# Altium footprint library Inductor_THT.PcbLib: 269 footprints (part 13 of 17)
Each footprint in its own frame and in the unit in brackets; x right, y up, seen from the top. Pads: shape width x height; smd on the part's side, far side on the other; paste and mask are expansions set on the pad; w line width, h text height; cw(c..) or ccw(c..) is an arc to the next point about the centre after c.
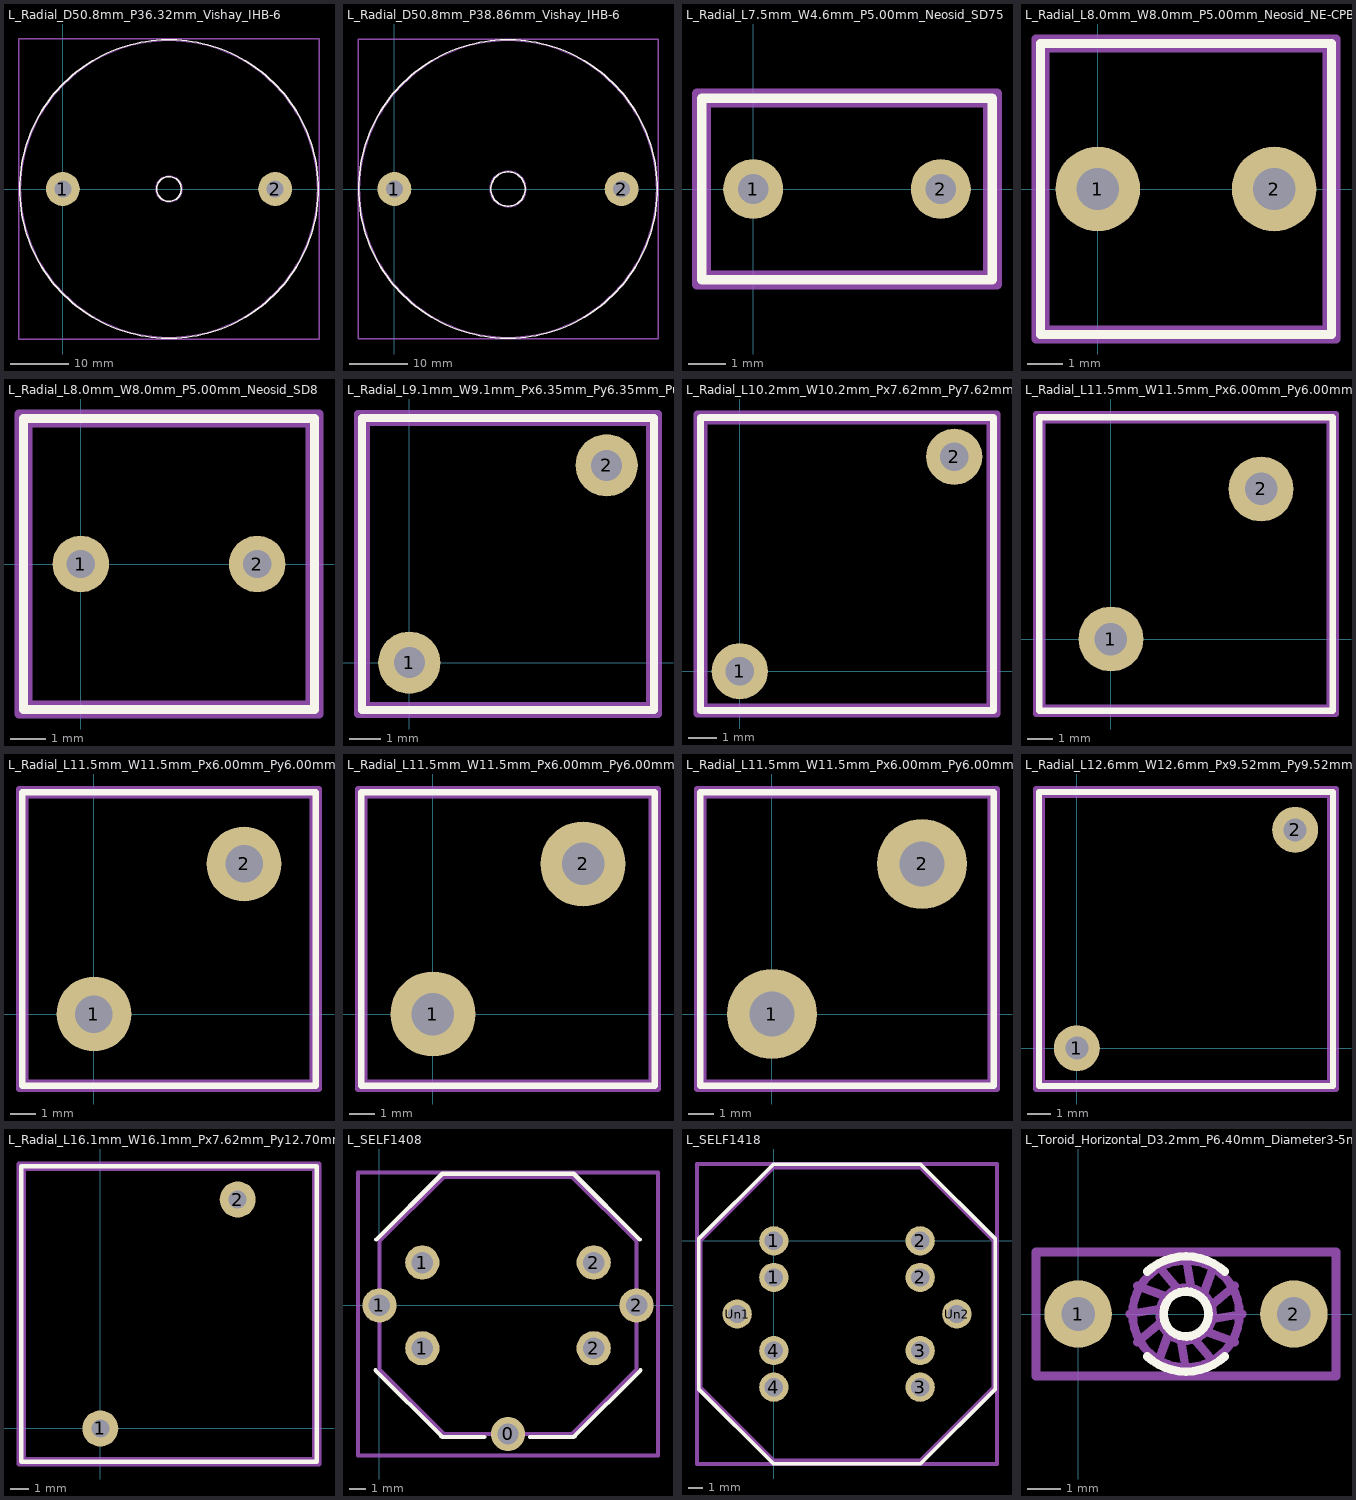
[diagram p12: the footprints below, top view; thin cyan lines are the x and y axes]

## L_Radial_D50.8mm_P36.32mm_Vishay_IHB-6 [mm]
pads (2):
  round 5.8 hole 2.9: 1(0,0) 2(36.32,0)
F.SilkS:
  circle w0.254: c18.16,0 r25.52
  circle w0.254: c18.16,0 r2.105
Top Assembly:
  circle w0.254: c18.16,0 r25.4
  circle w0.254: c18.16,0 r2.225
  text "'.Designator'" at 14.113,-0.84 h1
Top Courtyard:
  lines w0.254: -7.49,-25.65 43.81,-25.65 43.81,25.65 -7.49,25.65 -7.49,-25.65
Top Designator:
  text ".Designator" at 10.542,-0.508 h1.52
3D body "L_Radial_D50.8mm_P36.32mm_Vishay_IHB-6.step": height 38.2, standoff -3, extent -7.24,-25.393 43.56,25.393

## L_Radial_D50.8mm_P38.86mm_Vishay_IHB-6 [mm]
pads (2):
  round 5.8 hole 2.9: 1(0,0) 2(38.86,0)
F.SilkS:
  circle w0.254: c19.43,0 r25.52
  circle w0.254: c19.43,0 r2.93
Top Assembly:
  circle w0.254: c19.43,0 r25.4
  circle w0.254: c19.43,0 r3.05
  text "'.Designator'" at 15.383,-0.84 h1
Top Courtyard:
  lines w0.254: -6.22,-25.65 45.08,-25.65 45.08,25.65 -6.22,25.65 -6.22,-25.65
Top Designator:
  text ".Designator" at 11.812,-0.508 h1.52
3D body "L_Radial_D50.8mm_P38.86mm_Vishay_IHB-6.step": height 38.2, standoff -3, extent -5.97,-25.393 44.83,25.393

## L_Radial_L7.5mm_W4.6mm_P5.00mm_Neosid_SD75 [mm]
pads (2):
  round 1.6 hole 0.8: 1(0,0) 2(5,0)
F.SilkS:
  lines w0.254: -1.37,-2.42 6.37,-2.42 6.37,2.42 -1.37,2.42 -1.37,-2.42
Top Assembly:
  lines w0.254: -1.25,-2.3 6.25,-2.3 6.25,2.3 -1.25,2.3 -1.25,-2.3
  text "'.Designator'" at -1.547,-0.84 h1
Top Courtyard:
  lines w0.254: -1.5,-2.55 6.5,-2.55 6.5,2.55 -1.5,2.55 -1.5,-2.55
Top Designator:
  text ".Designator" at -5.152,-0.508 h1.52
3D body "L_Radial_L7.5mm_W4.6mm_P5.00mm_Neosid_SD75.step": height 10.6, standoff -3, extent -1.25,-2.3 6.25,2.3

## L_Radial_L8.0mm_W8.0mm_P5.00mm_Neosid_NE-CPB-07E [mm]
pads (2):
  round 2.4 hole 1.2: 1(0,0) 2(5,0)
F.SilkS:
  lines w0.254: -1.62,-4.12 6.62,-4.12 6.62,4.12 -1.62,4.12 -1.62,-4.12
Top Assembly:
  lines w0.254: -1.5,-4 6.5,-4 6.5,4 -1.5,4 -1.5,-4
  text "'.Designator'" at -1.547,-0.84 h1
Top Courtyard:
  lines w0.254: -1.75,-4.25 6.75,-4.25 6.75,4.25 -1.75,4.25 -1.75,-4.25
Top Designator:
  text ".Designator" at -5.118,-0.508 h1.52
3D body "L_Radial_L8.0mm_W8.0mm_P5.00mm_Neosid_NE-CPB-07E.step": height 7.6, standoff -3, extent -1.5,-4 6.5,4

## L_Radial_L8.0mm_W8.0mm_P5.00mm_Neosid_SD8 [mm]
pads (2):
  round 1.6 hole 0.8: 1(0,0) 2(5,0)
F.SilkS:
  lines w0.254: -1.62,-4.12 6.62,-4.12 6.62,4.12 -1.62,4.12 -1.62,-4.12
Top Assembly:
  lines w0.254: -1.5,-4 6.5,-4 6.5,4 -1.5,4 -1.5,-4
  text "'.Designator'" at -1.547,-0.84 h1
Top Courtyard:
  lines w0.254: -1.75,-4.25 6.75,-4.25 6.75,4.25 -1.75,4.25 -1.75,-4.25
Top Designator:
  text ".Designator" at -5.118,-0.508 h1.52
3D body "L_Radial_L8.0mm_W8.0mm_P5.00mm_Neosid_SD8.step": height 9.7, standoff -3, extent -1.5,-4 6.5,4

## L_Radial_L9.1mm_W9.1mm_Px6.35mm_Py6.35mm_Pulse_LP-25 [mm]
pads (2):
  round 2 hole 1: 1(0,0) 2(6.35,6.35)
F.SilkS:
  lines w0.254: -1.515,-1.515 7.865,-1.515 7.865,7.865 -1.515,7.865 -1.515,-1.515
Top Assembly:
  lines w0.254: -1.395,-1.395 7.745,-1.395 7.745,7.745 -1.395,7.745 -1.395,-1.395
  text "'.Designator'" at -0.872,-0.84 h1
Top Courtyard:
  lines w0.254: -1.65,-1.65 8,-1.65 8,8 -1.65,8 -1.65,-1.65
Top Designator:
  text ".Designator" at -4.443,2.667 h1.52
3D body "L_Radial_L9.1mm_W9.1mm_Px6.35mm_Py6.35mm_Pulse_LP-25.step": height 7.97, standoff -3, extent -1.395,-1.395 7.745,7.745

## L_Radial_L10.2mm_W10.2mm_Px7.62mm_Py7.62mm_Pulse_LP-30 [mm]
pads (2):
  round 2 hole 1: 1(0,0) 2(7.62,7.62)
F.SilkS:
  lines w0.254: -1.39,-1.39 9.01,-1.39 9.01,9.01 -1.39,9.01 -1.39,-1.39
Top Assembly:
  lines w0.254: -1.27,-1.27 8.89,-1.27 8.89,8.89 -1.27,8.89 -1.27,-1.27
  text "'.Designator'" at -0.237,-0.84 h1
Top Courtyard:
  lines w0.254: -1.52,-1.52 9.14,-1.52 9.14,9.14 -1.52,9.14 -1.52,-1.52
Top Designator:
  text ".Designator" at -3.808,3.302 h1.52
3D body "L_Radial_L10.2mm_W10.2mm_Px7.62mm_Py7.62mm_Pulse_LP-30.step": height 7.72, standoff -3, extent -1.27,-1.27 8.89,8.89

## L_Radial_L11.5mm_W11.5mm_Px6.00mm_Py6.00mm_Neosid_NE-CPB-11EN_Drill1.3mm [mm]
pads (2):
  round 2.6 hole 1.3: 1(0,0) 2(6,6)
F.SilkS:
  lines w0.254: -2.87,-2.87 8.87,-2.87 8.87,8.87 -2.87,8.87 -2.87,-2.87
Top Assembly:
  lines w0.254: -2.75,-2.75 8.75,-2.75 8.75,8.75 -2.75,8.75 -2.75,-2.75
  text "'.Designator'" at -1.047,-0.84 h1
Top Courtyard:
  lines w0.254: -3,-3 9,-3 9,9 -3,9 -3,-3
Top Designator:
  text ".Designator" at -4.618,2.492 h1.52
3D body "L_Radial_L11.5mm_W11.5mm_Px6.00mm_Py6.00mm_Neosid_NE-CPB-11EN_Drill1.3mm.step": height 9.7, standoff -3, extent -2.75,-2.75 8.75,8.75

## L_Radial_L11.5mm_W11.5mm_Px6.00mm_Py6.00mm_Neosid_NE-CPB-11EN_Drill1.5mm [mm]
pads (2):
  round 3 hole 1.5: 1(0,0) 2(6,6)
F.SilkS:
  lines w0.254: -2.87,-2.87 8.87,-2.87 8.87,8.87 -2.87,8.87 -2.87,-2.87
Top Assembly:
  lines w0.254: -2.75,-2.75 8.75,-2.75 8.75,8.75 -2.75,8.75 -2.75,-2.75
  text "'.Designator'" at -1.047,-0.84 h1
Top Courtyard:
  lines w0.254: -3,-3 9,-3 9,9 -3,9 -3,-3
Top Designator:
  text ".Designator" at -4.618,2.492 h1.52
3D body "L_Radial_L11.5mm_W11.5mm_Px6.00mm_Py6.00mm_Neosid_NE-CPB-11EN_Drill1.5mm.step": height 9.7, standoff -3, extent -2.75,-2.75 8.75,8.75

## L_Radial_L11.5mm_W11.5mm_Px6.00mm_Py6.00mm_Neosid_NE-CPB-11EN_Drill1.7mm [mm]
pads (2):
  round 3.4 hole 1.7: 1(0,0) 2(6,6)
F.SilkS:
  lines w0.254: -2.87,-2.87 8.87,-2.87 8.87,8.87 -2.87,8.87 -2.87,-2.87
Top Assembly:
  lines w0.254: -2.75,-2.75 8.75,-2.75 8.75,8.75 -2.75,8.75 -2.75,-2.75
  text "'.Designator'" at -1.047,-0.84 h1
Top Courtyard:
  lines w0.254: -3,-3 9,-3 9,9 -3,9 -3,-3
Top Designator:
  text ".Designator" at -4.618,2.492 h1.52
3D body "L_Radial_L11.5mm_W11.5mm_Px6.00mm_Py6.00mm_Neosid_NE-CPB-11EN_Drill1.7mm.step": height 9.7, standoff -3, extent -2.75,-2.75 8.75,8.75

## L_Radial_L11.5mm_W11.5mm_Px6.00mm_Py6.00mm_Neosid_NE-CPB-11EN_Drill1.8mm [mm]
pads (2):
  round 3.6 hole 1.8: 1(0,0) 2(6,6)
F.SilkS:
  lines w0.254: -2.87,-2.87 8.87,-2.87 8.87,8.87 -2.87,8.87 -2.87,-2.87
Top Assembly:
  lines w0.254: -2.75,-2.75 8.75,-2.75 8.75,8.75 -2.75,8.75 -2.75,-2.75
  text "'.Designator'" at -1.047,-0.84 h1
Top Courtyard:
  lines w0.254: -3,-3 9,-3 9,9 -3,9 -3,-3
Top Designator:
  text ".Designator" at -4.618,2.492 h1.52
3D body "L_Radial_L11.5mm_W11.5mm_Px6.00mm_Py6.00mm_Neosid_NE-CPB-11EN_Drill1.8mm.step": height 9.7, standoff -3, extent -2.75,-2.75 8.75,8.75

## L_Radial_L12.6mm_W12.6mm_Px9.52mm_Py9.52mm_Pulse_LP-37 [mm]
pads (2):
  round 2 hole 1: 1(0,0) 2(9.52,9.52)
F.SilkS:
  lines w0.254: -1.645,-1.645 11.165,-1.645 11.165,11.165 -1.645,11.165 -1.645,-1.645
Top Assembly:
  lines w0.254: -1.525,-1.525 11.045,-1.525 11.045,11.045 -1.525,11.045 -1.525,-1.525
  text "'.Designator'" at 0.713,-0.84 h1
Top Courtyard:
  lines w0.254: -1.78,-1.78 11.3,-1.78 11.3,11.3 -1.78,11.3 -1.78,-1.78
Top Designator:
  text ".Designator" at -2.858,4.252 h1.52
3D body "L_Radial_L12.6mm_W12.6mm_Px9.52mm_Py9.52mm_Pulse_LP-37.step": height 9.62, standoff -3, extent -1.525,-1.525 11.045,11.045

## L_Radial_L16.1mm_W16.1mm_Px7.62mm_Py12.70mm_Pulse_LP-44 [mm]
pads (2):
  round 2 hole 1: 1(0,0) 2(7.62,12.7)
F.SilkS:
  lines w0.254: -4.375,-1.835 -4.375,14.535 11.995,14.535 11.995,-1.835 -4.375,-1.835
Top Assembly:
  lines w0.254: -4.255,-1.715 -4.255,14.415 11.875,14.415 11.875,-1.715 -4.255,-1.715
  text "'.Designator'" at -0.237,-0.84 h1
Top Courtyard:
  lines w0.254: -4.51,-1.97 -4.51,14.67 12.13,14.67 12.13,-1.97 -4.51,-1.97
Top Designator:
  text ".Designator" at -3.808,5.842 h1.52
3D body "L_Radial_L16.1mm_W16.1mm_Px7.62mm_Py12.70mm_Pulse_LP-44.step": height 9.37, standoff -3, extent -4.255,-1.715 11.875,14.415

## L_SELF1408 [mm]
pads (7):
  round 2.03 hole 1.27: 0(7.62,-7.62) 1(0,0) 1(2.54,-2.54) 1(2.54,2.54) 2(12.7,-2.54) 2(12.7,2.54) 2(15.24,0)
F.SilkS:
  lines w0.254: -0.23,-3.85 3.67,-7.75 ; -0.18,3.9 3.72,7.8 11.52,7.8 15.42,3.9 ; 3.72,-7.8 6.22,-7.8 ; 8.92,-7.8 11.52,-7.8 ; 11.57,-7.75 15.47,-3.85
Top Assembly:
  lines w0.254: 0,-3.81 3.81,-7.62 11.43,-7.62 15.24,-3.81 15.24,3.81 11.43,7.62 3.81,7.62 0,3.81 0,-3.81
  text "'.Designator'" at 3.573,-3.38 h1
Top Courtyard:
  lines w0.254: -1.27,-8.89 16.51,-8.89 16.51,7.87 -1.27,7.87 -1.27,-8.89
Top Designator:
  text ".Designator" at 0.002,-1.018 h1.52

## L_SELF1418 [mm]
pads (10):
  round 2.03 hole 1.27: 1(0,-2.54) 1(0,0) 2(10.16,-2.54) 2(10.16,0) 3(10.16,-10.16) 3(10.16,-7.62) 4(0,-10.16) 4(0,-7.62) Un1(-2.54,-5.08) Un2(12.7,-5.08)
F.SilkS:
  lines w0.254: -5.22,-10.28 -0.02,-15.48 10.18,-15.48 15.38,-10.28 15.38,-10.18 15.38,0.12 10.18,5.32 -0.02,5.32 -5.22,0.12 -5.22,0.02 -5.22,-10.28
Top Assembly:
  lines w0.254: -5.08,-10.16 0,-15.24 10.16,-15.24 15.24,-10.16 15.24,0 10.16,5.08 0,5.08 -5.08,0 -5.08,-10.16
  text "'.Designator'" at 1.033,-5.92 h1
Top Courtyard:
  lines w0.254: -5.33,-15.49 15.49,-15.49 15.49,5.33 -5.33,5.33 -5.33,-15.49
Top Designator:
  text ".Designator" at -2.538,-5.588 h1.52

## L_Toroid_Horizontal_D3.2mm_P6.40mm_Diameter3-5mm_Amidon-T12 [mm]
pads (2):
  round 2 hole 1: 1(0,0) 2(6.4,0)
F.SilkS:
  circle w0.254: c3.2,0 r0.667
  lines w0.254: 2.048,-1.26 ccw(c3.2,0) 4.352,-1.26 ; 2.048,1.26 cw(c3.2,0) 4.352,1.26
Top Assembly:
  circle w0.254: c3.2,0 r1.587
  circle w0.254: c3.2,0 r0.787
  lines w0.254: 1.527,0 2.542,0.176 ; 1.751,-0.837 2.542,-0.176 ; 1.751,0.837 2.719,0.481 ; 2.363,-1.449 2.719,-0.481 ; 2.363,1.449 3.024,0.658 ; 3.024,-0.658 3.2,-1.673 ; 3.2,1.673 3.376,0.658 ; 3.376,-0.658 4.037,-1.449 ; 3.681,-0.481 4.649,-0.837 ; 3.681,0.481 4.037,1.449 ; 3.858,-0.176 4.873,0 ; 3.858,0.176 4.649,0.837
  text "'.Designator'" at 0.63,-0.534 h0.64
Top Courtyard:
  lines w0.254: -1.25,-1.84 7.65,-1.84 7.65,1.84 -1.25,1.84 -1.25,-1.84
Top Designator:
  text ".Designator" at -4.418,-0.508 h1.52